# Altium schematic symbol library RF.SchLib: 65 symbols
Pins are listed as number, name and electrical type; pins without a type are passive.

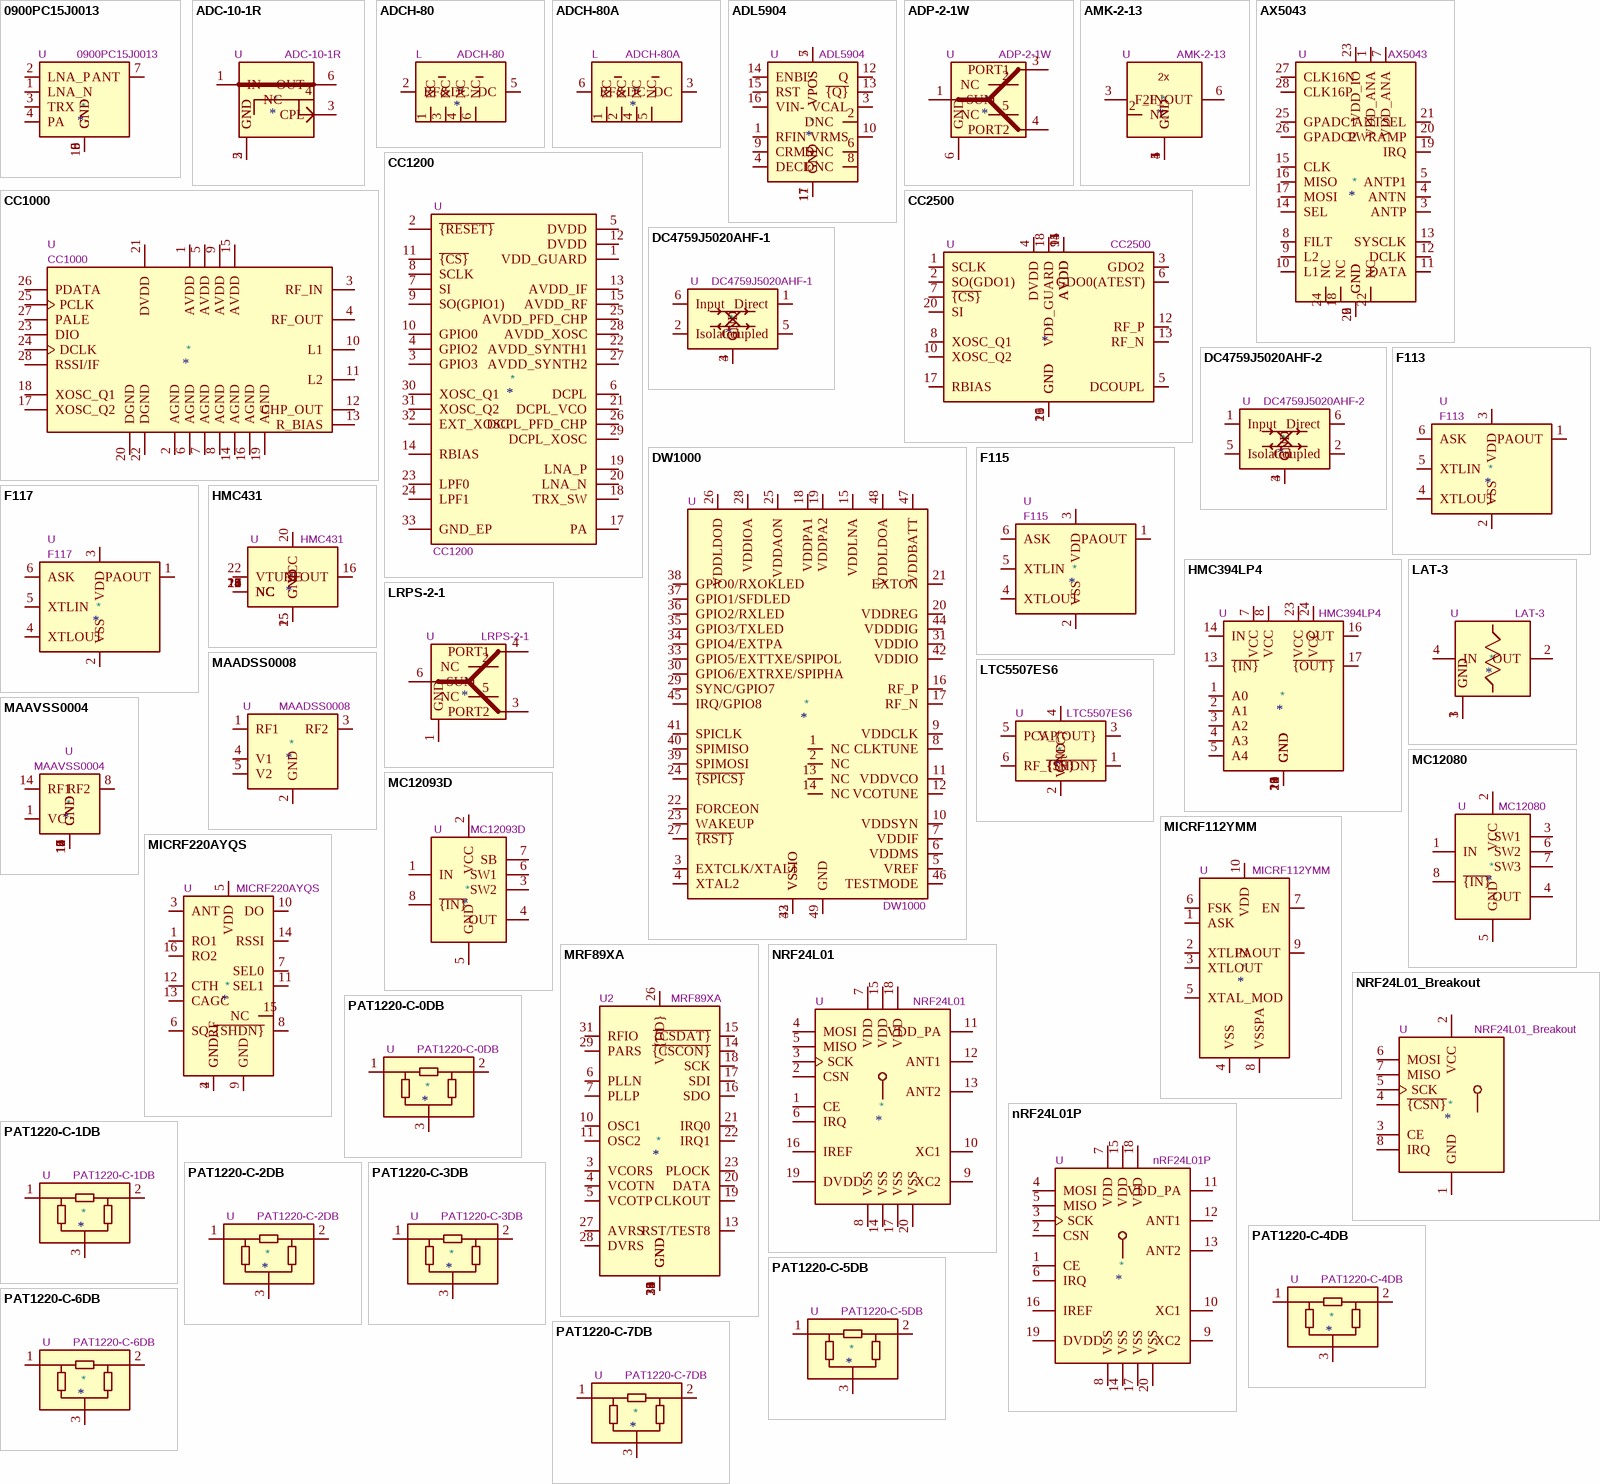
[diagram p0: symbols 0900PC15J0013 to PAT1220-C-7DB]

## 0900PC15J0013
designator *  value 0900PC15J0013  Reference: U
868/915MHz Impedance Matched, Multi-Function, Integrated Ceramic Passive Component for Texas Instruments CC112x, CC117x & CC12xx Chipsets; ki_keywords: CC1120 CC1121 CC1125 CC1175 CC1200 CC1201 balun; ki_fp_filters: Balun*Johanson*0900PC15J0013*; Footprint: RF_Converter:Balun_Johanson_0900PC15J0013; Datasheet: https://www.johansontechnology.com/datasheets/0900PC15J0013/0900PC15J0013.pdf; Description_: 868/915MHz Impedance Matched, Multi-Function, Integrated Ceramic Passive Component for Texas Instruments CC112x, CC117x & CC12xx Chipsets
pins: 1 LNA_N, 2 LNA_P, 3 TRX, 4 PA, 5 GND, 6 GND, 7 ANT, 8 GND, 9 GND, 10 GND

## ADC-10-1R
designator *  value ADC-10-1R  Reference: U
Directional Coupler, 5 to 900 MHz, 10 dB Coupling, 50 Ohm, Mini-Circuits CD542; ki_fp_filters: Mini?Circuits*CD542*; Footprint: RF_Mini-Circuits:Mini-Circuits_CD542_LandPatternPL-094; Datasheet: https://www.minicircuits.com/pdfs/ADC-10-1R.pdf; Description_: Directional Coupler, 5 to 900 MHz, 10 dB Coupling, 50 Ohm, Mini-Circuits CD542; ki_keywords: Directional Coupler
pins: 1 IN, 2 GND, 3 CPL, 4 NC, 5 GND, 6 OUT

## ADCH-80
designator *  value ADCH-80  Reference: L
50-10000MHz, RF Choke, Mini-Circuits CD542; ki_keywords: bias filter DC choke; ki_fp_filters: Mini?Circuits*CD542*; Footprint: RF_Mini-Circuits:Mini-Circuits_CD542_H2.84mm; Datasheet: https://www.minicircuits.com/pdfs/ADCH-80+.pdf; Description_: 50-10000MHz, RF Choke, Mini-Circuits CD542
pins: 1 NC, 2 RF&DC, 3 NC, 4 NC, 5 DC, 6 NC

## ADCH-80A
designator *  value ADCH-80A  Reference: L
50-10000MHz, RF Choke, Mini-Circuits CD542; ki_keywords: bias filter DC choke; ki_fp_filters: Mini?Circuits*CD542*; Footprint: RF_Mini-Circuits:Mini-Circuits_CD542_H2.84mm; Datasheet: https://www.minicircuits.com/pdfs/ADCH-80A+.pdf; Description_: 50-10000MHz, RF Choke, Mini-Circuits CD542
pins: 1 NC, 2 NC, 3 DC, 4 NC, 5 NC, 6 RF&DC

## ADL5904
designator *  value ADL5904  Reference: U
DC to 6 GHz, 45 dB TruPwr Detector with Envelope Threshold Detection, LFCSP-16; ki_keywords: RMS power detector log decibel dB; ki_fp_filters: LFCSP*1EP*3x3mm*P0.5mm*; Footprint: Package_CSP:LFCSP-16-1EP_3x3mm_P0.5mm_EP1.6x1.6mm; Datasheet: https://www.analog.com/media/en/technical-documentation/data-sheets/ADL5904.pdf; Description_: DC to 6 GHz, 45 dB TruPwr Detector with Envelope Threshold Detection, LFCSP-16
pins: 1 RFIN, 2 DNC, 3 VCAL, 4 DECL, 5 VPOS, 6 DNC, 7 VPOS, 8 DNC, 9 CRMS, 10 VRMS, 11 GND, 12 Q, 13 ~{{Q}}, 14 ENBL, 15 RST, 16 VIN-, 17 GND

## ADP-2-1W
designator *  value ADP-2-1W  Reference: U
Power splitter combiner, 1 to 650 MHz, 2 way 0-degree, 50 ohm, Mini-Circuits CD636; ki_fp_filters: Mini?Circuits*CD636*; Footprint: RF_Mini-Circuits:Mini-Circuits_CD636_LandPatternPL-035; Datasheet: https://www.minicircuits.com/pdfs/ADP-2-1W.pdf; Description_: Power splitter combiner, 1 to 650 MHz, 2 way 0-degree, 50 ohm, Mini-Circuits CD636; ki_keywords: splitter combiner
pins: 1 SUM, 2 NC, 3 PORT1, 4 PORT2, 5 NC, 6 GND

## AMK-2-13
designator *  value AMK-2-13  Reference: U
2x Frequency Multiplier, output 20 to 1000 MHz, 50 Ohm, Mini-Circuits CD542; ki_fp_filters: Mini?Circuits*CD542*; Footprint: RF_Mini-Circuits:Mini-Circuits_CD542_LandPatternPL-052; Datasheet: https://www.minicircuits.com/pdfs/AMK-2-13+.pdf; Description_: 2x Frequency Multiplier, output 20 to 1000 MHz, 50 Ohm, Mini-Circuits CD542; ki_keywords: frequency multiplier
pins: 1 GND, 2 NC, 3 F_IN, 4 GND, 5 GND, 6 2F_OUT
text: 2x

## AX5043
designator *  value AX5043  Reference: U
Advanced High Performance ASK and FSK Narrow-band Transceiver for 27 - 1050 MHz Range; ki_keywords: RF, transceiver; ki_fp_filters: QFN?28*5x5mm*P0.5mm*; Footprint: Package_DFN_QFN:QFN-28-1EP_5x5mm_P0.5mm_EP3.35x3.35mm; Datasheet: https://www.onsemi.com/pub/Collateral/AX5043-D.PDF; Description_: Advanced High Performance ASK and FSK Narrow-band Transceiver for 27 - 1050 MHz Range
pins: 1 VDD_ANA, 2 GND, 3 ANTP, 4 ANTN, 5 ANTP1, 6 GND, 7 VDD_ANA, 8 FILT, 9 L2, 10 L1, 11 DATA, 12 DCLK, 13 SYSCLK, 14 SEL, 15 CLK, 16 MISO, 17 MOSI, 18 NC, 19 IRQ, 20 PWRAMP, 21 ANTSEL, 22 NC, 23 VDD_IO, 24 NC, 25 GPADC1, 26 GPADC2, 27 CLK16N, 28 CLK16P, 29 GND

## CC1000
designator *  value CC1000  Reference: U
Single Chip Low Power RF Transceiver, TSSOP-28; ki_fp_filters: TSSOP*4.4x9.7mm*P0.65mm*; Footprint: Package_SO:TSSOP-28_4.4x9.7mm_P0.65mm; Datasheet: www.ti.com/lit/ds/symlink/cc1000.pdf; Description_: Single Chip Low Power RF Transceiver, TSSOP-28; ki_keywords: Low Power RF Transceiver
pins: 1 AVDD, 2 AGND, 3 RF_IN, 4 RF_OUT, 5 AVDD, 6 AGND, 7 AGND, 8 AGND, 9 AVDD, 10 L1, 11 L2, 12 CHP_OUT, 13 R_BIAS, 14 AGND, 15 AVDD, 16 AGND, 17 XOSC_Q2, 18 XOSC_Q1, 19 AGND, 20 DGND, 21 DVDD, 22 DGND, 23 DIO, 24 DCLK, 25 PCLK, 26 PDATA, 27 PALE, 28 RSSI/IF

## CC1200
designator *  value CC1200  Reference: U
Low-Power, High-Performance RF Transceiver, QFN-32; ki_keywords: RF Tx Rx; ki_fp_filters: QFN*5x5mm*P0.5mm*; Footprint: Package_DFN_QFN:QFN-32-1EP_5x5mm_P0.5mm_EP3.45x3.45mm; Datasheet: http://www.ti.com/lit/ds/symlink/cc1200.pdf; Description_: Low-Power, High-Performance RF Transceiver, QFN-32
pins: 1 VDD_GUARD, 2 ~{{RESET}}, 3 GPIO3, 4 GPIO2, 5 DVDD, 6 DCPL, 7 SI, 8 SCLK, 9 SO(GPIO1), 10 GPIO0, 11 ~{{CS}}, 12 DVDD, 13 AVDD_IF, 14 RBIAS, 15 AVDD_RF, 17 PA, 18 TRX_SW, 19 LNA_P, 20 LNA_N, 21 DCPL_VCO, 22 AVDD_SYNTH1, 23 LPF0, 24 LPF1, 25 AVDD_PFD_CHP, 26 DCPL_PFD_CHP, 27 AVDD_SYNTH2, 28 AVDD_XOSC, 29 DCPL_XOSC, 30 XOSC_Q1, 31 XOSC_Q2, 32 EXT_XOSC, 33 GND_EP

## CC2500
designator *  value CC2500  Reference: U
Single Chip Low Power RF Transceiver, QFN-20; ki_fp_filters: Texas*RGP0020H*; Footprint: Package_DFN_QFN:Texas_RGP0020H_VQFN-20-1EP_4x4mm_P0.5mm_EP2.4x2.4mm; Datasheet: http://www.ti.com/lit/ds/symlink/cc2500.pdf; Description_: Single Chip Low Power RF Transceiver, QFN-20; ki_keywords: Low Power RF Transceiver
pins: 1 SCLK, 2 SO(GDO1), 3 GDO2, 4 DVDD, 5 DCOUPL, 6 GDO0(ATEST), 7 ~{{CS}}, 8 XOSC_Q1, 9 AVDD, 10 XOSC_Q2, 11 AVDD, 12 RF_P, 13 RF_N, 14 AVDD, 15 AVDD, 16 GND, 17 RBIAS, 18 VDD_GUARD, 19 GND, 20 SI, 21 GND

## DC4759J5020AHF-1
designator *  value DC4759J5020AHF-1  Reference: U
4.7-5.9GHz 20dB Directional Coupler, Configuration 1, Anaren 0805; ki_keywords: RF coupler; ki_fp_filters: Anaren*0805*2012Metric*; Footprint: RF_Converter:Anaren_0805_2012Metric-6; Datasheet: https://cdn.anaren.com/product-documents/Xinger/DirectionalCouplers/DC4759J5020AHF/DC4759J5020AHF_DataSheet(Rev_E).pdf; Description_: 4.7-5.9GHz 20dB Directional Coupler, Configuration 1, Anaren 0805
pins: 1 Direct, 2 Isolated, 3 GND, 4 GND, 5 Coupled, 6 Input

## DC4759J5020AHF-2
designator *  value DC4759J5020AHF-2  Reference: U
4.7-5.9GHz 20dB Directional Coupler, Configuration 2, Anaren 0805; ki_keywords: RF coupler; ki_fp_filters: Anaren*0805*2012Metric*; Footprint: RF_Converter:Anaren_0805_2012Metric-6; Datasheet: https://cdn.anaren.com/product-documents/Xinger/DirectionalCouplers/DC4759J5020AHF/DC4759J5020AHF_DataSheet(Rev_E).pdf; Description_: 4.7-5.9GHz 20dB Directional Coupler, Configuration 2, Anaren 0805
pins: 1 Input, 2 Coupled, 3 GND, 4 GND, 5 Isolated, 6 Direct

## DW1000
designator *  value DW1000  Reference: U
Ultra Wideband transceiver, 6.8Mbps data rates, 3.5GHz to 6.5GHz, QFN-48; ki_keywords: Ultra Wideband UWB transceiver IEEE802.15.4-2011 Decawave Qorvo; ki_fp_filters: QFN*1EP*6x6mm*P0.4mm*; Footprint: Package_DFN_QFN:QFN-48-1EP_6x6mm_P0.4mm_EP4.2x4.2mm; Datasheet: https://www.decawave.com/wp-content/uploads/2020/04/DW1000_Datasheet.pdf; Description_: Ultra Wideband transceiver, 6.8Mbps data rates, 3.5GHz to 6.5GHz, QFN-48
pins: 1 NC, 2 NC, 3 EXTCLK/XTAL1, 4 XTAL2, 5 VREF, 6 VDDMS, 7 VDDIF, 8 CLKTUNE, 9 VDDCLK, 10 VDDSYN, 11 VDDVCO, 12 VCOTUNE, 13 NC, 14 NC, 15 VDDLNA, 16 RF_P, 17 RF_N, 18 VDDPA1, 19 VDDPA2, 20 VDDREG, 21 EXTON, 22 FORCEON, 23 WAKEUP, 24 ~{{SPICS}}, 25 VDDAON, 26 VDDLDOD, 27 ~{{RST}}, 28 VDDIOA, 29 SYNC/GPIO7, 30 GPIO6/EXTRXE/SPIPHA, 31 VDDIO, 32 VSSIO, 33 GPIO5/EXTTXE/SPIPOL, 34 GPIO4/EXTPA, 35 GPIO3/TXLED, 36 GPIO2/RXLED, 37 GPIO1/SFDLED, 38 GPIO0/RXOKLED, 39 SPIMOSI, 40 SPIMISO, 41 SPICLK, 42 VDDIO, 43 VSSIO, 44 VDDDIG, 45 IRQ/GPIO8, 46 TESTMODE, 47 VDDBATT, 48 VDDLDOA, 49 GND

## F113
designator *  value F113  Reference: U
Synoxo 300-450MHz ASK/OOK Transmitter, +10dBm, 10kbps, 1.8-3.6V, SOT-23-6; ki_keywords: Synoxo SYN113 RF Transmitter; ki_fp_filters: SOT-23-6*; Footprint: Package_TO_SOT_SMD:SOT-23-6; Datasheet: https://datasheet.lcsc.com/lcsc/2205181716_Synoxo-F115_C3010244.pdf; Description_: Synoxo 300-450MHz ASK/OOK Transmitter, +10dBm, 10kbps, 1.8-3.6V, SOT-23-6
pins: 1 PAOUT, 2 VSS, 3 VDD, 4 XTLOUT, 5 XTLIN, 6 ASK

## F115
designator *  value F115  Reference: U
Synoxo 300-450MHz ASK/OOK Transmitter, +10dBm, 10kbps, Sleep/Wake Function, 1.8-3.6V, SOT-23-6; ki_keywords: Synoxo SYN115 RF Transmitter; ki_fp_filters: SOT-23-6*; Footprint: Package_TO_SOT_SMD:SOT-23-6; Datasheet: https://datasheet.lcsc.com/lcsc/2205181716_Synoxo-F115_C3010244.pdf; Description_: Synoxo 300-450MHz ASK/OOK Transmitter, +10dBm, 10kbps, Sleep/Wake Function, 1.8-3.6V, SOT-23-6
pins: 1 PAOUT, 2 VSS, 3 VDD, 4 XTLOUT, 5 XTLIN, 6 ASK

## F117
designator *  value F117  Reference: U
Synoxo 300-450MHz ASK/OOK Transmitter, +13dBm, 10kbps, Sleep/Wake Function, 1.8-3.6V, SOT-23-6; ki_keywords: Synoxo SYN117 RF Transmitter; ki_fp_filters: SOT-23-6*; Footprint: Package_TO_SOT_SMD:SOT-23-6; Datasheet: https://datasheet.lcsc.com/lcsc/2205181716_Synoxo-F115_C3010244.pdf; Description_: Synoxo 300-450MHz ASK/OOK Transmitter, +13dBm, 10kbps, Sleep/Wake Function, 1.8-3.6V, SOT-23-6
pins: 1 PAOUT, 2 VSS, 3 VDD, 4 XTLOUT, 5 XTLIN, 6 ASK

## HMC394LP4
designator *  value HMC394LP4  Reference: U
GaAs HBT Programmable 5-bit Counter, DC - 2.2 GHz, QFN-24-1EP; ki_keywords: counter prescaler programmable frequency divider; ki_fp_filters: QFN*1EP*4x4mm*P0.5mm*; Footprint: Package_DFN_QFN:QFN-24-1EP_4x4mm_P0.5mm_EP2.8x2.8mm; Datasheet: https://www.analog.com/media/en/technical-documentation/data-sheets/hmc394.pdf; Description_: GaAs HBT Programmable 5-bit Counter, DC - 2.2 GHz, QFN-24-1EP
pins: 1 A0, 2 A1, 3 A2, 4 A3, 5 A4, 6 GND, 7 VCC, 8 VCC, 9 GND, 10 GND, 11 GND, 12 GND, 13 ~{{IN}}, 14 IN, 15 GND, 16 OUT, 17 ~{{OUT}}, 18 GND, 19 GND, 20 GND, 21 GND, 22 GND, 23 VCC, 24 VCC, 25 GND

## HMC431
designator *  value HMC431  Reference: U
5.5-6.1GHz VCO, QFN-24; ki_keywords: vco rf; ki_fp_filters: QFN*1EP*4x4mm*P0.5mm*; Footprint: Package_DFN_QFN:QFN-24-1EP_4x4mm_P0.5mm_EP2.8x2.8mm; Datasheet: https://www.analog.com/media/en/technical-documentation/data-sheets/hmc431.pdf; Description_: 5.5-6.1GHz VCO, QFN-24
pins: 1 NC, 2 NC, 3 NC, 4 NC, 5 NC, 6 NC, 7 NC, 8 NC, 9 NC, 10 NC, 11 NC, 12 NC, 13 NC, 14 NC, 15 GND, 16 RFOUT, 17 NC, 18 NC, 19 NC, 20 VCC, 21 NC, 22 VTUNE, 23 NC, 24 NC, 25 GND

## LAT-3
designator *  value LAT-3  Reference: U
Attenuator, 3dB, 0.5W, DC to 2500 MHz, 50 Ohm, Mini-Circuits MMM168; ki_keywords: attenuator rf; ki_fp_filters: Mini?Circuits*MMM168*; Footprint: RF_Mini-Circuits:Mini-Circuits_MMM168_LandPatternPL-225; Datasheet: https://www.minicircuits.com/pdfs/LAT-3+.pdf; Description_: Attenuator, 3dB, 0.5W, DC to 2500 MHz, 50 Ohm, Mini-Circuits MMM168
pins: 1 GND, 2 OUT, 3 GND, 4 IN

## LRPS-2-1
designator *  value LRPS-2-1  Reference: U
Power Splitter/Combiner, 5 to 500 MHz, 50 Ohm; ki_keywords: power splitter combiner; ki_fp_filters: Mini?Circuits*QQQ130*; Footprint: RF_Mini-Circuits:Mini-Circuits_QQQ130_LandPattern_PL-236_ClockwisePinNumbering; Datasheet: https://www.minicircuits.com/pdfs/LRPS-2-1.pdf; Description_: Power Splitter/Combiner, 5 to 500 MHz, 50 Ohm
pins: 1 GND, 2 NC, 3 PORT2, 4 PORT1, 5 NC, 6 SUM

## LTC5507ES6
designator *  value LTC5507ES6  Reference: U
100kHz to 1GHz RF Power Detector, 2.7..6V supply, TSOT-23-6; ki_keywords: analog linear; ki_fp_filters: TSOT*23*6*; Footprint: Package_TO_SOT_SMD:TSOT-23-6; Datasheet: https://www.analog.com/media/en/technical-documentation/data-sheets/5507f.pdf; Description_: 100kHz to 1GHz RF Power Detector, 2.7..6V supply, TSOT-23-6
pins: 1 ~{{SHDN}}, 2 GND, 3 V_{OUT}, 4 V_{CC}, 5 PCAP, 6 RF_{IN}

## MAADSS0008
designator *  value MAADSS0008  Reference: U
0-2GHz, 15dB step attenuator, SOT-23-5; ki_keywords: RF attenuator; ki_fp_filters: SOT*23*5*; Footprint: Package_TO_SOT_SMD:SOT-23-5; Datasheet: http://cdn.macom.com/datasheets/maadss0008.pdf; Description_: 0-2GHz, 15dB step attenuator, SOT-23-5
pins: 1 RF1, 2 GND, 3 RF2, 4 V1, 5 V2

## MAAVSS0004
designator *  value MAAVSS0004  Reference: U
DC-2GHz, 35dB, Voltage Variable Absorptive Attenuator, SOIC-14; ki_keywords: VVA; ki_fp_filters: SOIC*3.9x8.7mm*P1.27mm*; Footprint: Package_SO:SOIC-14_3.9x8.7mm_P1.27mm; Datasheet: https://cdn.macom.com/datasheets/MAAVSS0004.pdf; Description_: DC-2GHz, 35dB, Voltage Variable Absorptive Attenuator, SOIC-14
pins: 1 VC, 2 GND, 3 GND, 4 GND, 5 GND, 6 GND, 7 GND, 8 RF2, 9 GND, 10 GND, 11 GND, 12 GND, 13 GND, 14 RF1

## MC12080
designator *  value MC12080  Reference: U
1.1 GHz Prescaler, divide by 10 20 40 80, SOIC-8; ki_keywords: prescaler frequency divider; ki_fp_filters: SOIC*3.9x4.9mm*P1.27mm*; Footprint: Package_SO:SOIC-8_3.9x4.9mm_P1.27mm; Datasheet: https://www.onsemi.com/pub/Collateral/MC12080-D.PDF; Description_: 1.1 GHz Prescaler, divide by 10 20 40 80, SOIC-8
pins: 1 IN, 2 VCC, 3 SW1, 4 OUT, 5 GND, 6 SW2, 7 SW3, 8 ~{{IN}}

## MC12093D
designator *  value MC12093D  Reference: U
/2, /4, /8, 1.1 GHz Low Power Prescaler with Stand‐By Mode, SOIC-8; ki_keywords: prescaler frequency divider; ki_fp_filters: SOIC*3.9x4.9mm*P1.27mm*; Footprint: Package_SO:SOIC-8_3.9x4.9mm_P1.27mm; Datasheet: https://www.onsemi.com/pub/Collateral/MC12093-D.PDF; Description_: /2, /4, /8, 1.1 GHz Low Power Prescaler with Stand‐By Mode, SOIC-8
pins: 1 IN, 2 VCC, 3 SW2, 4 OUT, 5 GND, 6 SW1, 7 SB, 8 ~{{IN}}

## MICRF112YMM
designator *  value MICRF112YMM  Reference: U
ASK/FSK Transmitter, 1.8-3.6V, 300-450MHz, +10dBm, MSOP-10; ki_keywords: ask fsk ism transmitter; ki_fp_filters: MSOP*3x3mm*P0.5mm*; Footprint: Package_SO:MSOP-10_3x3mm_P0.5mm; Datasheet: http://ww1.microchip.com/downloads/en/DeviceDoc/MICRF112.pdf; Description_: ASK/FSK Transmitter, 1.8-3.6V, 300-450MHz, +10dBm, MSOP-10
pins: 1 ASK, 2 XTLIN, 3 XTLOUT, 4 VSS, 5 XTAL_MOD, 6 FSK, 7 EN, 8 VSSPA, 9 PAOUT, 10 VDD

## MICRF220AYQS
designator *  value MICRF220AYQS  Reference: U
ASK Receiver 3.0-3.6V, 300-450MHz, -110dBm, QSOP-16; ki_fp_filters: QSOP*3.9x4.9mm*P0.635mm*; Footprint: Package_SO:QSOP-16_3.9x4.9mm_P0.635mm; Datasheet: http://ww1.microchip.com/downloads/en/DeviceDoc/micrf220.pdf; Description_: ASK Receiver 3.0-3.6V, 300-450MHz, -110dBm, QSOP-16; ki_keywords: ask receiver
pins: 1 RO1, 2 GNDRF, 3 ANT, 4 GNDRF, 5 VDD, 6 SQ, 7 SEL0, 8 ~{{SHDN}}, 9 GND, 10 DO, 11 SEL1, 12 CTH, 13 CAGC, 14 RSSI, 15 NC, 16 RO2

## MRF89XA
designator *  value MRF89XA  Reference: U2
Ultra Low-Power, Integrated ISM Band Sub-GHz Transceiver, QFN-32; ki_keywords: RF Tx Rx; ki_fp_filters: QFN*1EP*5x5mm*P0.5mm*; Footprint: Package_DFN_QFN:QFN-32-1EP_5x5mm_P0.5mm_EP3.1x3.1mm; Datasheet: http://ww1.microchip.com/downloads/en/DeviceDoc/70000622D.pdf; Description_: Ultra Low-Power, Integrated ISM Band Sub-GHz Transceiver, QFN-32
pins: 1 GND, 2 GND, 3 VCORS, 4 VCOTN, 5 VCOTP, 6 PLLN, 7 PLLP, 8 GND, 9 GND, 10 OSC1, 11 OSC2, 12 GND, 13 RST/TEST8, 14 ~{{CSCON}}, 15 ~{{CSDAT}}, 16 SDO, 17 SDI, 18 SCK, 19 CLKOUT, 20 DATA, 21 IRQ0, 22 IRQ1, 23 PLOCK, 24 GND, 25 GND, 26 V_{DD}, 27 AVRS, 28 DVRS, 29 PARS, 30 GND, 31 RFIO, 32 GND, 33 GND

## NRF24L01
designator *  value NRF24L01  Reference: U
Ultra low power 2.4GHz RF Transceiver, QFN-20; ki_keywords: Low Power RF Transceiver; ki_fp_filters: QFN*4x4*0.5mm*; Footprint: Package_DFN_QFN:QFN-20-1EP_4x4mm_P0.5mm_EP2.5x2.5mm; Datasheet: http://www.nordicsemi.com/eng/content/download/2730/34105/file/nRF24L01_Product_Specification_v2_0.pdf; Description_: Ultra low power 2.4GHz RF Transceiver, QFN-20
pins: 1 CE, 2 CSN, 3 SCK, 4 MOSI, 5 MISO, 6 IRQ, 7 VDD, 8 VSS, 9 XC2, 10 XC1, 11 VDD_PA, 12 ANT1, 13 ANT2, 14 VSS, 15 VDD, 16 IREF, 17 VSS, 18 VDD, 19 DVDD, 20 VSS

## NRF24L01_Breakout
designator *  value NRF24L01_Breakout  Reference: U
Ultra low power 2.4GHz RF Transceiver, Carrier PCB; ki_keywords: Low Power RF Transceiver breakout carrier; ki_fp_filters: nRF24L01*Breakout*; Footprint: RF_Module:nRF24L01_Breakout; Datasheet: http://www.nordicsemi.com/eng/content/download/2730/34105/file/nRF24L01_Product_Specification_v2_0.pdf; Description_: Ultra low power 2.4GHz RF Transceiver, Carrier PCB
pins: 1 GND, 2 VCC, 3 CE, 4 ~{{CSN}}, 5 SCK, 6 MOSI, 7 MISO, 8 IRQ

## nRF24L01P
designator *  value nRF24L01P  Reference: U
nRF24L01+, Ultra low power 2.4GHz RF Transceiver, QFN20 4x4mm; ki_keywords: Low Power RF Transceiver; ki_fp_filters: QFN*4x4*0.5mm*; Footprint: Package_DFN_QFN:QFN-20-1EP_4x4mm_P0.5mm_EP2.5x2.5mm; Datasheet: http://www.nordicsemi.com/eng/content/download/2726/34069/file/nRF24L01P_Product_Specification_1_0.pdf; Description_: nRF24L01+, Ultra low power 2.4GHz RF Transceiver, QFN20 4x4mm
pins: 1 CE, 2 CSN, 3 SCK, 4 MOSI, 5 MISO, 6 IRQ, 7 VDD, 8 VSS, 9 XC2, 10 XC1, 11 VDD_PA, 12 ANT1, 13 ANT2, 14 VSS, 15 VDD, 16 IREF, 17 VSS, 18 VDD, 19 DVDD, 20 VSS

## PAT1220-C-0DB
designator *  value PAT1220-C-0DB  Reference: U
10GHz RF Attenuator, 50ohm Matched Impedance, 0dB Attenuation, PAT1220; ki_fp_filters: RF*Attenuator*Susumu*PAT1220*; Footprint: RF_Converter:RF_Attenuator_Susumu_PAT1220; Datasheet: https://www.susumu.co.jp/common/pdf/n_catalog_partition16_en.pdf; Description_: 10GHz RF Attenuator, 50ohm Matched Impedance, 0dB Attenuation, PAT1220; ki_keywords: RF attenuator
pins: 1, 2, 3

## PAT1220-C-1DB
designator *  value PAT1220-C-1DB  Reference: U
10GHz RF Attenuator, 50ohm Matched Impedance, 1dB Attenuation, PAT1220; ki_fp_filters: RF*Attenuator*Susumu*PAT1220*; Footprint: RF_Converter:RF_Attenuator_Susumu_PAT1220; Datasheet: https://www.susumu.co.jp/common/pdf/n_catalog_partition16_en.pdf; Description_: 10GHz RF Attenuator, 50ohm Matched Impedance, 1dB Attenuation, PAT1220; ki_keywords: RF attenuator
pins: 1, 2, 3

## PAT1220-C-2DB
designator *  value PAT1220-C-2DB  Reference: U
10GHz RF Attenuator, 50ohm Matched Impedance, 2dB Attenuation, PAT1220; ki_fp_filters: RF*Attenuator*Susumu*PAT1220*; Footprint: RF_Converter:RF_Attenuator_Susumu_PAT1220; Datasheet: https://www.susumu.co.jp/common/pdf/n_catalog_partition16_en.pdf; Description_: 10GHz RF Attenuator, 50ohm Matched Impedance, 2dB Attenuation, PAT1220; ki_keywords: RF attenuator
pins: 1, 2, 3

## PAT1220-C-3DB
designator *  value PAT1220-C-3DB  Reference: U
10GHz RF Attenuator, 50ohm Matched Impedance, 3dB Attenuation, PAT1220; ki_fp_filters: RF*Attenuator*Susumu*PAT1220*; Footprint: RF_Converter:RF_Attenuator_Susumu_PAT1220; Datasheet: https://www.susumu.co.jp/common/pdf/n_catalog_partition16_en.pdf; Description_: 10GHz RF Attenuator, 50ohm Matched Impedance, 3dB Attenuation, PAT1220; ki_keywords: RF attenuator
pins: 1, 2, 3

## PAT1220-C-4DB
designator *  value PAT1220-C-4DB  Reference: U
10GHz RF Attenuator, 50ohm Matched Impedance, 4dB Attenuation, PAT1220; ki_fp_filters: RF*Attenuator*Susumu*PAT1220*; Footprint: RF_Converter:RF_Attenuator_Susumu_PAT1220; Datasheet: https://www.susumu.co.jp/common/pdf/n_catalog_partition16_en.pdf; Description_: 10GHz RF Attenuator, 50ohm Matched Impedance, 4dB Attenuation, PAT1220; ki_keywords: RF attenuator
pins: 1, 2, 3

## PAT1220-C-5DB
designator *  value PAT1220-C-5DB  Reference: U
10GHz RF Attenuator, 50ohm Matched Impedance, 5dB Attenuation, PAT1220; ki_fp_filters: RF*Attenuator*Susumu*PAT1220*; Footprint: RF_Converter:RF_Attenuator_Susumu_PAT1220; Datasheet: https://www.susumu.co.jp/common/pdf/n_catalog_partition16_en.pdf; Description_: 10GHz RF Attenuator, 50ohm Matched Impedance, 5dB Attenuation, PAT1220; ki_keywords: RF attenuator
pins: 1, 2, 3

## PAT1220-C-6DB
designator *  value PAT1220-C-6DB  Reference: U
10GHz RF Attenuator, 50ohm Matched Impedance, 6dB Attenuation, PAT1220; ki_fp_filters: RF*Attenuator*Susumu*PAT1220*; Footprint: RF_Converter:RF_Attenuator_Susumu_PAT1220; Datasheet: https://www.susumu.co.jp/common/pdf/n_catalog_partition16_en.pdf; Description_: 10GHz RF Attenuator, 50ohm Matched Impedance, 6dB Attenuation, PAT1220; ki_keywords: RF attenuator
pins: 1, 2, 3

## PAT1220-C-7DB
designator *  value PAT1220-C-7DB  Reference: U
10GHz RF Attenuator, 50ohm Matched Impedance, 7dB Attenuation, PAT1220; ki_fp_filters: RF*Attenuator*Susumu*PAT1220*; Footprint: RF_Converter:RF_Attenuator_Susumu_PAT1220; Datasheet: https://www.susumu.co.jp/common/pdf/n_catalog_partition16_en.pdf; Description_: 10GHz RF Attenuator, 50ohm Matched Impedance, 7dB Attenuation, PAT1220; ki_keywords: RF attenuator
pins: 1, 2, 3

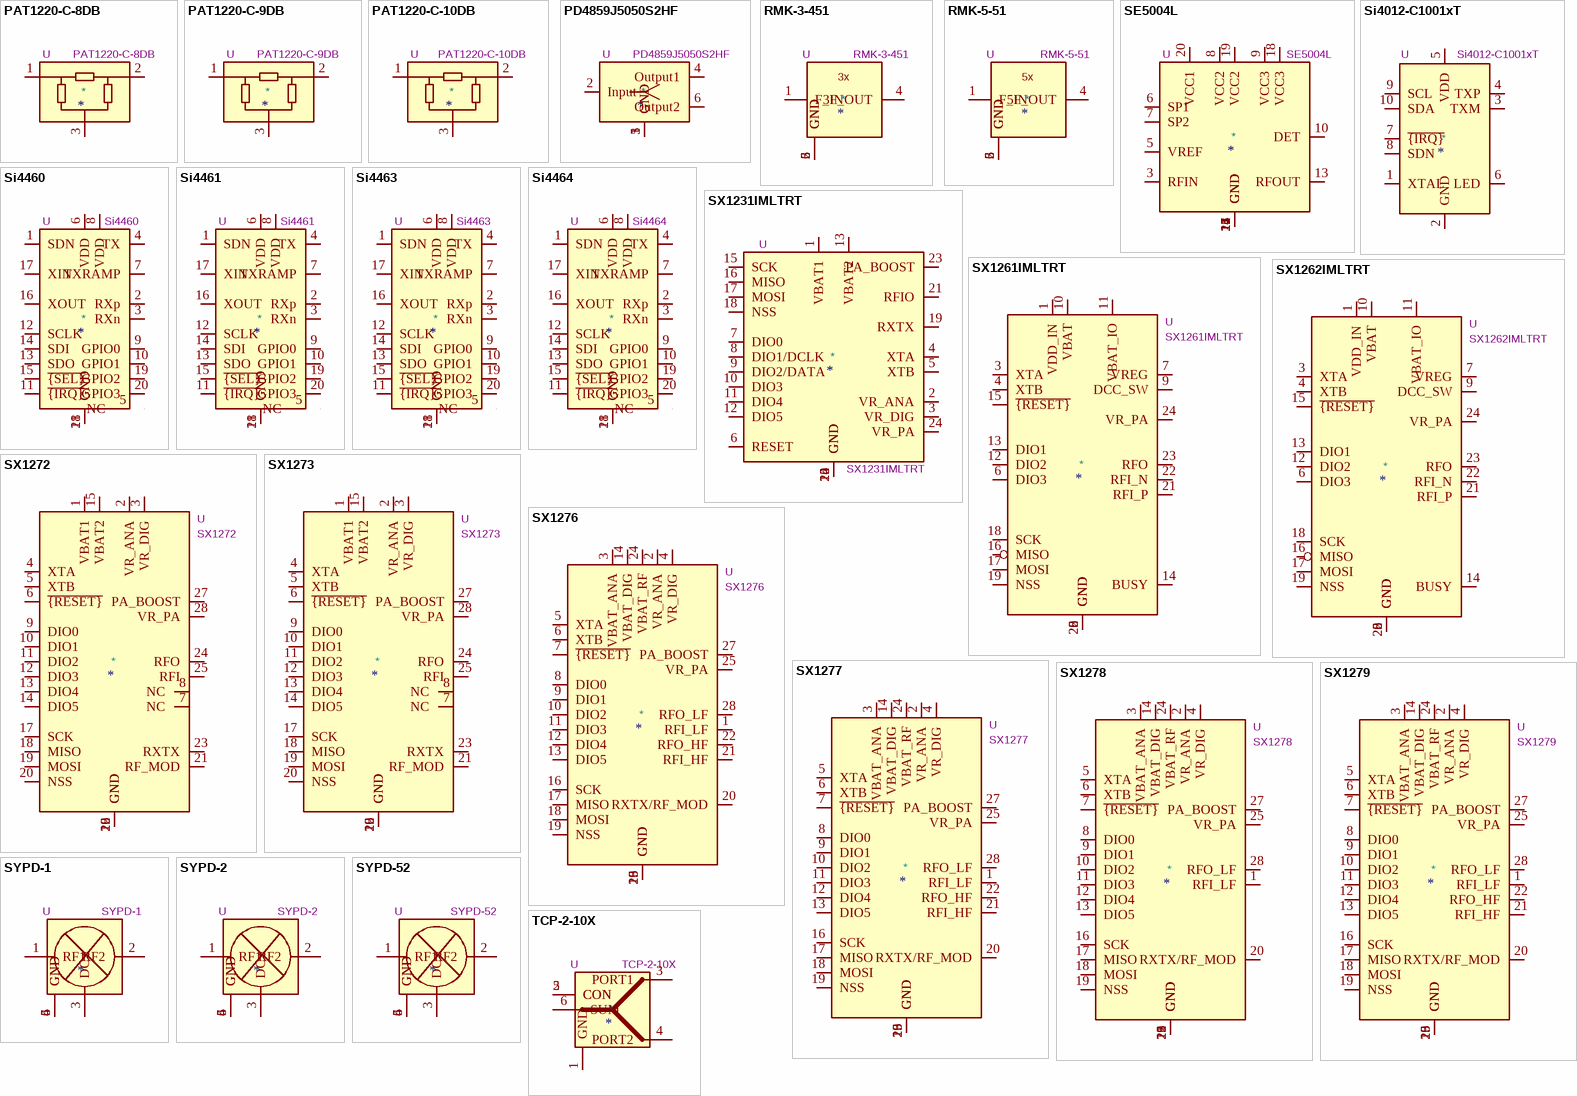
[diagram p1: symbols PAT1220-C-8DB to TCP-2-10X]

## PAT1220-C-8DB
designator *  value PAT1220-C-8DB  Reference: U
10GHz RF Attenuator, 50ohm Matched Impedance, 8dB Attenuation, PAT1220; ki_fp_filters: RF*Attenuator*Susumu*PAT1220*; Footprint: RF_Converter:RF_Attenuator_Susumu_PAT1220; Datasheet: https://www.susumu.co.jp/common/pdf/n_catalog_partition16_en.pdf; Description_: 10GHz RF Attenuator, 50ohm Matched Impedance, 8dB Attenuation, PAT1220; ki_keywords: RF attenuator
pins: 1, 2, 3

## PAT1220-C-9DB
designator *  value PAT1220-C-9DB  Reference: U
10GHz RF Attenuator, 50ohm Matched Impedance, 9dB Attenuation, PAT1220; ki_fp_filters: RF*Attenuator*Susumu*PAT1220*; Footprint: RF_Converter:RF_Attenuator_Susumu_PAT1220; Datasheet: https://www.susumu.co.jp/common/pdf/n_catalog_partition16_en.pdf; Description_: 10GHz RF Attenuator, 50ohm Matched Impedance, 9dB Attenuation, PAT1220; ki_keywords: RF attenuator
pins: 1, 2, 3

## PAT1220-C-10DB
designator *  value PAT1220-C-10DB  Reference: U
10GHz RF Attenuator, 50ohm Matched Impedance, 10dB Attenuation, PAT1220; ki_fp_filters: RF*Attenuator*Susumu*PAT1220*; Footprint: RF_Converter:RF_Attenuator_Susumu_PAT1220; Datasheet: https://www.susumu.co.jp/common/pdf/n_catalog_partition16_en.pdf; Description_: 10GHz RF Attenuator, 50ohm Matched Impedance, 10dB Attenuation, PAT1220; ki_keywords: RF attenuator
pins: 1, 2, 3

## PD4859J5050S2HF
designator *  value PD4859J5050S2HF  Reference: U
4.8-5.9GHz Wilkinson Power Divider, Anaren 0805; ki_keywords: rf power divider wilkinson; ki_fp_filters: Anaren*0805*2012Metric*; Footprint: RF_Converter:Anaren_0805_2012Metric-6; Datasheet: https://cdn.anaren.com/product-documents/Xinger/PowerDividers/PD4859J5050S2HF/PD4859J5050S2HF_DataSheet(Rev_D).pdf; Description_: 4.8-5.9GHz Wilkinson Power Divider, Anaren 0805
pins: 1 GND, 2 Input, 3 GND, 4 Output1, 5 GND, 6 Output2

## RMK-3-451
designator *  value RMK-3-451  Reference: U
3x Frequency Multiplier, output 300 to 450 MHz, 50 Ohm, Mini-Circuits TT1224; ki_fp_filters: Mini?Circuits*TT1224*; Footprint: RF_Mini-Circuits:Mini-Circuits_TT1224_LandPatternPL-258_ClockwisePinNumbering; Datasheet: https://www.minicircuits.com/pdfs/RMK-3-451+.pdf; Description_: 3x Frequency Multiplier, output 300 to 450 MHz, 50 Ohm, Mini-Circuits TT1224; ki_keywords: frequency multiplier
pins: 1 F_IN, 2 GND, 3 GND, 4 3F_OUT, 5 GND, 6 GND
text: 3x

## RMK-5-51
designator *  value RMK-5-51  Reference: U
5x Frequency Multiplier, Output 37.5 to 52.5 MHz, 50 Ohm, Mini-Circuits TT1224; ki_fp_filters: Mini?Circuits*TT1224*; Footprint: RF_Mini-Circuits:Mini-Circuits_TT1224_LandPatternPL-258_ClockwisePinNumbering; Datasheet: https://www.minicircuits.com/pdfs/RMK-5-51+.pdf; Description_: 5x Frequency Multiplier, Output 37.5 to 52.5 MHz, 50 Ohm, Mini-Circuits TT1224; ki_keywords: frequency multiplier
pins: 1 F_IN, 2 GND, 3 GND, 4 5F_OUT, 5 GND, 6 GND
text: 5x

## SE5004L
designator *  value SE5004L  Reference: U
5 GHz, 26dBm Power Amplifier with Power Detector, QFN-20; ki_keywords: RF Power Amplifier; ki_fp_filters: QFN*4x4mm*P0.5mm*; Footprint: Package_DFN_QFN:QFN-20-1EP_4x4mm_P0.5mm_EP2.5x2.5mm; Datasheet: https://www.skyworksinc.com/-/media/SkyWorks/Documents/Products/601-700/SE5004L_202393B.pdf; Description_: 5 GHz, 26dBm Power Amplifier with Power Detector, QFN-20
pins: 1 GND, 2 GND, 3 RFIN, 4 GND, 5 VREF, 6 SP1, 7 SP2, 8 VCC2, 9 VCC3, 10 DET, 11 GND, 12 GND, 13 RFOUT, 14 GND, 15 GND, 16 GND, 17 GND, 18 VCC3, 19 VCC2, 20 VCC1, 21 GND

## Si4012-C1001xT
designator *  value Si4012-C1001xT  Reference: U
Crystal-Less FSK/OOK RF Transmitter, -13dBm to +10dBm, 27-960 MHz, MSOP-10; ki_keywords: sub-GHz-ISM-band radio CMOS SMBus; ki_fp_filters: *MSOP*3x3mm*P0.5mm*; Footprint: Package_SO:MSOP-10_3x3mm_P0.5mm; Datasheet: https://www.silabs.com/documents/public/data-sheets/Si4012.pdf; Description_: Crystal-Less FSK/OOK RF Transmitter, -13dBm to +10dBm, 27-960 MHz, MSOP-10
pins: 1 XTAL, 2 GND, 3 TXM, 4 TXP, 5 VDD, 6 LED, 7 ~{{IRQ}}, 8 SDN, 9 SCL, 10 SDA

## Si4460
designator *  value Si4460  Reference: U
High-Performance, Low-Current Sub-GHz Transceiver, +13dBm, Major bands 142-1050 MHz, QFN-20; ki_keywords: transceiver sub-ghz radio ism; ki_fp_filters: QFN*1EP*4x4mm*P0.5mm*; Footprint: Package_DFN_QFN:QFN-20-1EP_4x4mm_P0.5mm_EP2.6x2.6mm_ThermalVias; Datasheet: https://www.silabs.com/documents/public/data-sheets/Si4464-63-61-60.pdf; Description_: High-Performance, Low-Current Sub-GHz Transceiver, +13dBm, Major bands 142-1050 MHz, QFN-20
pins: 1 SDN, 2 RXp, 3 RXn, 4 TX, 5 NC, 6 VDD, 7 TXRAMP, 8 VDD, 9 GPIO0, 10 GPIO1, 11 ~{{IRQ}}, 12 SCLK, 13 SDO, 14 SDI, 15 ~{{SEL}}, 16 XOUT, 17 XIN, 18 GND, 19 GPIO2, 20 GPIO3, 21 GND

## Si4461
designator *  value Si4461  Reference: U
High-Performance, Low-Current Sub-GHz Transceiver, +16dBm, Major bands 142-1050 MHz, QFN-20; ki_keywords: transceiver sub-ghz radio ism; ki_fp_filters: QFN*1EP*4x4mm*P0.5mm*; Footprint: Package_DFN_QFN:QFN-20-1EP_4x4mm_P0.5mm_EP2.6x2.6mm_ThermalVias; Datasheet: https://www.silabs.com/documents/public/data-sheets/Si4464-63-61-60.pdf; Description_: High-Performance, Low-Current Sub-GHz Transceiver, +16dBm, Major bands 142-1050 MHz, QFN-20
pins: 1 SDN, 2 RXp, 3 RXn, 4 TX, 5 NC, 6 VDD, 7 TXRAMP, 8 VDD, 9 GPIO0, 10 GPIO1, 11 ~{{IRQ}}, 12 SCLK, 13 SDO, 14 SDI, 15 ~{{SEL}}, 16 XOUT, 17 XIN, 18 GND, 19 GPIO2, 20 GPIO3, 21 GND

## Si4463
designator *  value Si4463  Reference: U
High-Performance, Low-Current Sub-GHz Transceiver, +20dBm, Major bands 142-1050 MHz, QFN-20; ki_keywords: transceiver sub-ghz radio ism; ki_fp_filters: QFN*1EP*4x4mm*P0.5mm*; Footprint: Package_DFN_QFN:QFN-20-1EP_4x4mm_P0.5mm_EP2.6x2.6mm_ThermalVias; Datasheet: https://www.silabs.com/documents/public/data-sheets/Si4464-63-61-60.pdf; Description_: High-Performance, Low-Current Sub-GHz Transceiver, +20dBm, Major bands 142-1050 MHz, QFN-20
pins: 1 SDN, 2 RXp, 3 RXn, 4 TX, 5 NC, 6 VDD, 7 TXRAMP, 8 VDD, 9 GPIO0, 10 GPIO1, 11 ~{{IRQ}}, 12 SCLK, 13 SDO, 14 SDI, 15 ~{{SEL}}, 16 XOUT, 17 XIN, 18 GND, 19 GPIO2, 20 GPIO3, 21 GND

## Si4464
designator *  value Si4464  Reference: U
High-Performance, Low-Current Sub-GHz Transceiver, +20dBm, Banded 119-960 MHz, QFN-20; ki_keywords: transceiver sub-ghz radio ism; ki_fp_filters: QFN*1EP*4x4mm*P0.5mm*; Footprint: Package_DFN_QFN:QFN-20-1EP_4x4mm_P0.5mm_EP2.6x2.6mm_ThermalVias; Datasheet: https://www.silabs.com/documents/public/data-sheets/Si4464-63-61-60.pdf; Description_: High-Performance, Low-Current Sub-GHz Transceiver, +20dBm, Banded 119-960 MHz, QFN-20
pins: 1 SDN, 2 RXp, 3 RXn, 4 TX, 5 NC, 6 VDD, 7 TXRAMP, 8 VDD, 9 GPIO0, 10 GPIO1, 11 ~{{IRQ}}, 12 SCLK, 13 SDO, 14 SDI, 15 ~{{SEL}}, 16 XOUT, 17 XIN, 18 GND, 19 GPIO2, 20 GPIO3, 21 GND

## SX1231IMLTRT
designator *  value SX1231IMLTRT  Reference: U
Low Power Integrated UHF Transceiver, QFN-24; ki_fp_filters: QFN*1EP*5x5mm*P0.65mm*; Footprint: Package_DFN_QFN:QFN-24-1EP_5x5mm_P0.65mm_EP3.25x3.25mm; Datasheet: https://semtech.my.salesforce.com/sfc/p/#E0000000JelG/a/44000000MDkO/lWPNMeJClEs8Zvyu7AlDlKSyZqhYdVpQzFLVfUp.EXs; Description_: Low Power Integrated UHF Transceiver, QFN-24; ki_keywords: UHF Transceiver
pins: 1 VBAT1, 2 VR_ANA, 3 VR_DIG, 4 XTA, 5 XTB, 6 RESET, 7 DIO0, 8 DIO1/DCLK, 9 DIO2/DATA, 10 DIO3, 11 DIO4, 12 DIO5, 13 VBAT2, 14 GND, 15 SCK, 16 MISO, 17 MOSI, 18 NSS, 19 RXTX, 20 GND, 21 RFIO, 22 GND, 23 PA_BOOST, 24 VR_PA, 25 GND

## SX1261IMLTRT
designator *  value SX1261IMLTRT  Reference: U
150 MHz to 960 MHz Low Power Long Range Transceiver, 14dBm output power, spreading factor from 5 to 12, LoRA, QFN-24; ki_keywords: low-power lora transceiver; ki_fp_filters: QFN*1EP*4x4mm*P0.5mm*; Footprint: Package_DFN_QFN:QFN-24-1EP_4x4mm_P0.5mm_EP2.6x2.6mm; Datasheet: https://semtech.file.force.com/sfc/dist/version/download/?oid=00DE0000000JelG&ids=0682R00000IjPWSQA3&d=%2Fa%2F2R000000Un7F%2FyT.fKdAr9ZAo3cJLc4F2cBdUsMftpT2vsOICP7NmvMo; Description_: 150 MHz to 960 MHz Low Power Long Range Transceiver, 14dBm output power, spreading factor from 5 to 12, LoRA, QFN-24
pins: 1 VDD_IN, 2 GND, 3 XTA, 4 XTB, 5 GND, 6 DIO3, 7 VREG, 8 GND, 9 DCC_SW, 10 VBAT, 11 VBAT_IO, 12 DIO2, 13 DIO1, 14 BUSY, 15 ~{{RESET}}, 16 MISO, 17 MOSI, 18 SCK, 19 NSS, 20 GND, 21 RFI_P, 22 RFI_N, 23 RFO, 24 VR_PA, 25 GND

## SX1262IMLTRT
designator *  value SX1262IMLTRT  Reference: U
150 MHz to 960 MHz Low Power Long Range Transceiver, 22dBm output power, spreading factor from 5 to 12, LoRA, QFN-24; ki_keywords: low-power lora transceiver; ki_fp_filters: QFN*1EP*4x4mm*P0.5mm*; Footprint: Package_DFN_QFN:QFN-24-1EP_4x4mm_P0.5mm_EP2.6x2.6mm; Datasheet: https://semtech.file.force.com/sfc/dist/version/download/?oid=00DE0000000JelG&ids=0682R00000IjPWSQA3&d=%2Fa%2F2R000000Un7F%2FyT.fKdAr9ZAo3cJLc4F2cBdUsMftpT2vsOICP7NmvMo; Description_: 150 MHz to 960 MHz Low Power Long Range Transceiver, 22dBm output power, spreading factor from 5 to 12, LoRA, QFN-24
pins: 1 VDD_IN, 2 GND, 3 XTA, 4 XTB, 5 GND, 6 DIO3, 7 VREG, 8 GND, 9 DCC_SW, 10 VBAT, 11 VBAT_IO, 12 DIO2, 13 DIO1, 14 BUSY, 15 ~{{RESET}}, 16 MISO, 17 MOSI, 18 SCK, 19 NSS, 20 GND, 21 RFI_P, 22 RFI_N, 23 RFO, 24 VR_PA, 25 GND

## SX1272
designator *  value SX1272  Reference: U
860 MHz to 1020 MHz Low Power Long Range Transceiver, spreading factor from 6 to 12, LoRA, QFN-28; ki_keywords: low-power lora transceiver; ki_fp_filters: QFN*1EP*6x6mm*P0.65mm*; Footprint: Package_DFN_QFN:QFN-28-1EP_6x6mm_P0.65mm_EP4.8x4.8mm; Datasheet: https://semtech.my.salesforce.com/sfc/p/#E0000000JelG/a/440000001NCE/v_VBhk1IolDgxwwnOpcS_vTFxPfSEPQbuneK3mWsXlU; Description_: 860 MHz to 1020 MHz Low Power Long Range Transceiver, spreading factor from 6 to 12, LoRA, QFN-28
pins: 1 VBAT1, 2 VR_ANA, 3 VR_DIG, 4 XTA, 5 XTB, 6 ~{{RESET}}, 7 NC, 8 NC, 9 DIO0, 10 DIO1, 11 DIO2, 12 DIO3, 13 DIO4, 14 DIO5, 15 VBAT2, 16 GND, 17 SCK, 18 MISO, 19 MOSI, 20 NSS, 21 RF_MOD, 22 GND, 23 RXTX, 24 RFO, 25 RFI, 26 GND, 27 PA_BOOST, 28 VR_PA, 29 GND

## SX1273
designator *  value SX1273  Reference: U
860 MHz to 1020 MHz Low Power Long Range Transceiver, spreading factor from 6 to 9, LoRA, QFN-28; ki_keywords: low-power lora transceiver; ki_fp_filters: QFN*1EP*6x6mm*P0.65mm*; Footprint: Package_DFN_QFN:QFN-28-1EP_6x6mm_P0.65mm_EP4.8x4.8mm; Datasheet: https://semtech.my.salesforce.com/sfc/p/#E0000000JelG/a/440000001NCE/v_VBhk1IolDgxwwnOpcS_vTFxPfSEPQbuneK3mWsXlU; Description_: 860 MHz to 1020 MHz Low Power Long Range Transceiver, spreading factor from 6 to 9, LoRA, QFN-28
pins: 1 VBAT1, 2 VR_ANA, 3 VR_DIG, 4 XTA, 5 XTB, 6 ~{{RESET}}, 7 NC, 8 NC, 9 DIO0, 10 DIO1, 11 DIO2, 12 DIO3, 13 DIO4, 14 DIO5, 15 VBAT2, 16 GND, 17 SCK, 18 MISO, 19 MOSI, 20 NSS, 21 RF_MOD, 22 GND, 23 RXTX, 24 RFO, 25 RFI, 26 GND, 27 PA_BOOST, 28 VR_PA, 29 GND

## SX1276
designator *  value SX1276  Reference: U
137 MHz to 1020 MHz Low Power Long Range Transceiver, spreading factor from 6 to 12, LoRA, QFN-28; ki_keywords: low-power lora transceiver; ki_fp_filters: QFN*1EP*6x6mm*P0.65mm*; Footprint: Package_DFN_QFN:QFN-28-1EP_6x6mm_P0.65mm_EP4.8x4.8mm; Datasheet: https://semtech.my.salesforce.com/sfc/p/#E0000000JelG/a/2R0000001Rbr/6EfVZUorrpoKFfvaF_Fkpgp5kzjiNyiAbqcpqh9qSjE; Description_: 137 MHz to 1020 MHz Low Power Long Range Transceiver, spreading factor from 6 to 12, LoRA, QFN-28
pins: 1 RFI_LF, 2 VR_ANA, 3 VBAT_ANA, 4 VR_DIG, 5 XTA, 6 XTB, 7 ~{{RESET}}, 8 DIO0, 9 DIO1, 10 DIO2, 11 DIO3, 12 DIO4, 13 DIO5, 14 VBAT_DIG, 15 GND, 16 SCK, 17 MISO, 18 MOSI, 19 NSS, 20 RXTX/RF_MOD, 21 RFI_HF, 22 RFO_HF, 23 GND, 24 VBAT_RF, 25 VR_PA, 26 GND, 27 PA_BOOST, 28 RFO_LF, 29 GND

## SX1277
designator *  value SX1277  Reference: U
137 MHz to 525 MHz Low Power Long Range Transceiver, spreading factor from 6 to 12, LoRA, QFN-28; ki_keywords: low-power lora transceiver; ki_fp_filters: QFN*1EP*6x6mm*P0.65mm*; Footprint: Package_DFN_QFN:QFN-28-1EP_6x6mm_P0.65mm_EP4.8x4.8mm; Datasheet: https://semtech.my.salesforce.com/sfc/p/#E0000000JelG/a/2R0000001Rbr/6EfVZUorrpoKFfvaF_Fkpgp5kzjiNyiAbqcpqh9qSjE; Description_: 137 MHz to 525 MHz Low Power Long Range Transceiver, spreading factor from 6 to 12, LoRA, QFN-28
pins: 1 RFI_LF, 2 VR_ANA, 3 VBAT_ANA, 4 VR_DIG, 5 XTA, 6 XTB, 7 ~{{RESET}}, 8 DIO0, 9 DIO1, 10 DIO2, 11 DIO3, 12 DIO4, 13 DIO5, 14 VBAT_DIG, 15 GND, 16 SCK, 17 MISO, 18 MOSI, 19 NSS, 20 RXTX/RF_MOD, 21 RFI_HF, 22 RFO_HF, 23 GND, 24 VBAT_RF, 25 VR_PA, 26 GND, 27 PA_BOOST, 28 RFO_LF, 29 GND

## SX1278
designator *  value SX1278  Reference: U
137 MHz to 525 MHz Low Power Long Range Transceiver, spreading factor from 6 to 12, LoRA, QFN-28; ki_keywords: low-power lora transceiver; ki_fp_filters: QFN*1EP*6x6mm*P0.65mm*; Footprint: Package_DFN_QFN:QFN-28-1EP_6x6mm_P0.65mm_EP4.8x4.8mm; Datasheet: https://semtech.my.salesforce.com/sfc/p/#E0000000JelG/a/2R0000001Rbr/6EfVZUorrpoKFfvaF_Fkpgp5kzjiNyiAbqcpqh9qSjE; Description_: 137 MHz to 525 MHz Low Power Long Range Transceiver, spreading factor from 6 to 12, LoRA, QFN-28
pins: 1 RFI_LF, 2 VR_ANA, 3 VBAT_ANA, 4 VR_DIG, 5 XTA, 6 XTB, 7 ~{{RESET}}, 8 DIO0, 9 DIO1, 10 DIO2, 11 DIO3, 12 DIO4, 13 DIO5, 14 VBAT_DIG, 15 GND, 16 SCK, 17 MISO, 18 MOSI, 19 NSS, 20 RXTX/RF_MOD, 21 GND, 22 GND, 23 GND, 24 VBAT_RF, 25 VR_PA, 26 GND, 27 PA_BOOST, 28 RFO_LF, 29 GND

## SX1279
designator *  value SX1279  Reference: U
137 MHz to 960 MHz Low Power Long Range Transceiver, spreading factor from 6 to 12, LoRA, QFN-28; ki_keywords: low-power lora transceiver; ki_fp_filters: QFN*1EP*6x6mm*P0.65mm*; Footprint: Package_DFN_QFN:QFN-28-1EP_6x6mm_P0.65mm_EP4.8x4.8mm; Datasheet: https://semtech.my.salesforce.com/sfc/p/#E0000000JelG/a/2R0000001Rbr/6EfVZUorrpoKFfvaF_Fkpgp5kzjiNyiAbqcpqh9qSjE; Description_: 137 MHz to 960 MHz Low Power Long Range Transceiver, spreading factor from 6 to 12, LoRA, QFN-28
pins: 1 RFI_LF, 2 VR_ANA, 3 VBAT_ANA, 4 VR_DIG, 5 XTA, 6 XTB, 7 ~{{RESET}}, 8 DIO0, 9 DIO1, 10 DIO2, 11 DIO3, 12 DIO4, 13 DIO5, 14 VBAT_DIG, 15 GND, 16 SCK, 17 MISO, 18 MOSI, 19 NSS, 20 RXTX/RF_MOD, 21 RFI_HF, 22 RFO_HF, 23 GND, 24 VBAT_RF, 25 VR_PA, 26 GND, 27 PA_BOOST, 28 RFO_LF, 29 GND

## SYPD-1
designator *  value SYPD-1  Reference: U
Phase Detector, 1 to 100 MHz, 50 Ohm, Mini-Cicuits TTT167; ki_fp_filters: Mini?Circuits*TTT167*; Footprint: RF_Mini-Circuits:Mini-Circuits_TTT167_LandPatternPL-079; Datasheet: https://www.minicircuits.com/pdfs/SYPD-1+.pdf; Description_: Phase Detector, 1 to 100 MHz, 50 Ohm, Mini-Cicuits TTT167; ki_keywords: Phase Detector
pins: 1 RF1, 2 RF2, 3 DC, 4 GND, 5 GND, 6 GND

## SYPD-2
designator *  value SYPD-2  Reference: U
Phase Detector, 10 to 200 MHz, 50 Ohm, Mini-Cicuits TTT167; ki_fp_filters: Mini?Circuits*TTT167*; Footprint: RF_Mini-Circuits:Mini-Circuits_TTT167_LandPatternPL-079; Datasheet: https://www.minicircuits.com/pdfs/SYPD-2.pdf; Description_: Phase Detector, 10 to 200 MHz, 50 Ohm, Mini-Cicuits TTT167; ki_keywords: phase detector
pins: 1 RF1, 2 RF2, 3 DC, 4 GND, 5 GND, 6 GND

## SYPD-52
designator *  value SYPD-52  Reference: U
Phase Detector, 400 to 500 MHz, 50 Ohm, Mini-Cicuits TTT167; ki_fp_filters: Mini?Circuits*TTT167*; Footprint: RF_Mini-Circuits:Mini-Circuits_TTT167_LandPatternPL-079; Datasheet: https://www.minicircuits.com/pdfs/SYPD-52+.pdf; Description_: Phase Detector, 400 to 500 MHz, 50 Ohm, Mini-Cicuits TTT167; ki_keywords: Phase Detector
pins: 1 RF1, 2 RF2, 3 DC, 4 GND, 5 GND, 6 GND

## TCP-2-10X
designator *  value TCP-2-10X  Reference: U
Power splitter combiner, 5 to 1000 MHz, 2 way 0-degree, 50 ohm, Mini-Circuits DB1627; ki_fp_filters: Mini?Circuits*DB1627*; Footprint: RF_Mini-Circuits:Mini-Circuits_DB1627; Datasheet: https://www.minicircuits.com/pdfs/TCP-2-10X+.pdf; Description_: Power splitter combiner, 5 to 1000 MHz, 2 way 0-degree, 50 ohm, Mini-Circuits DB1627; ki_keywords: splitter combiner
pins: 1 GND, 2 CON, 3 PORT1, 4 PORT2, 5 CON, 6 SUM